# EAGLE library part PICK_SOLENOID_4 (library Z)
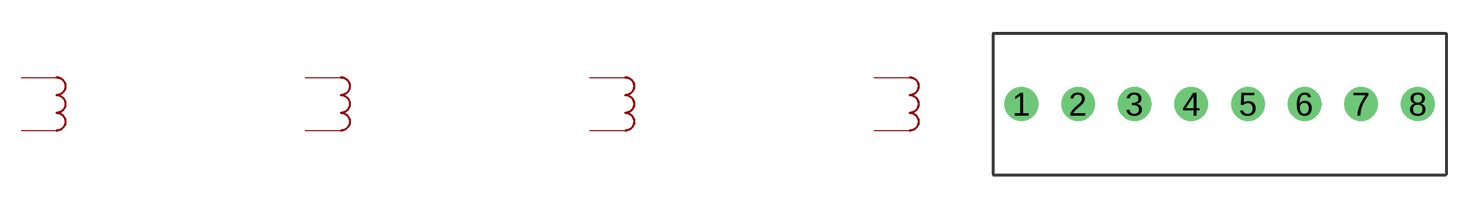
[diagram p8: symbol with the pads of _TERMINAL_BLOCK_2.54_1X10; footprint _TERMINAL_BLOCK_2.54_1X10]

Designator prefix -

## PICK_SOLENOID_4  [_TERMINAL_BLOCK_2.54_1X10]
1  1
2  2
3  3
4  4
5  5
6  6
7  7
8  8

## Footprint _TERMINAL_BLOCK_2.54_1X10 (pad centres in mm)
PIN HEADER
drill 1: 1 -8.89,0; 2 -6.35,0; 3 -3.81,0; 4 -1.27,0; 5 1.27,0; 6 3.81,0; 7 6.35,0; 8 8.89,0